# Altium footprint library ADAM_TECH_PH2-12-UA.PcbLib: 1 footprints
Each footprint in its own frame and in the unit in brackets; x right, y up, seen from the top. Pads: shape width x height; smd on the part's side, far side on the other; paste and mask are expansions set on the pad; w line width, h text height; cw(c..) or ccw(c..) is an arc to the next point about the centre after c.
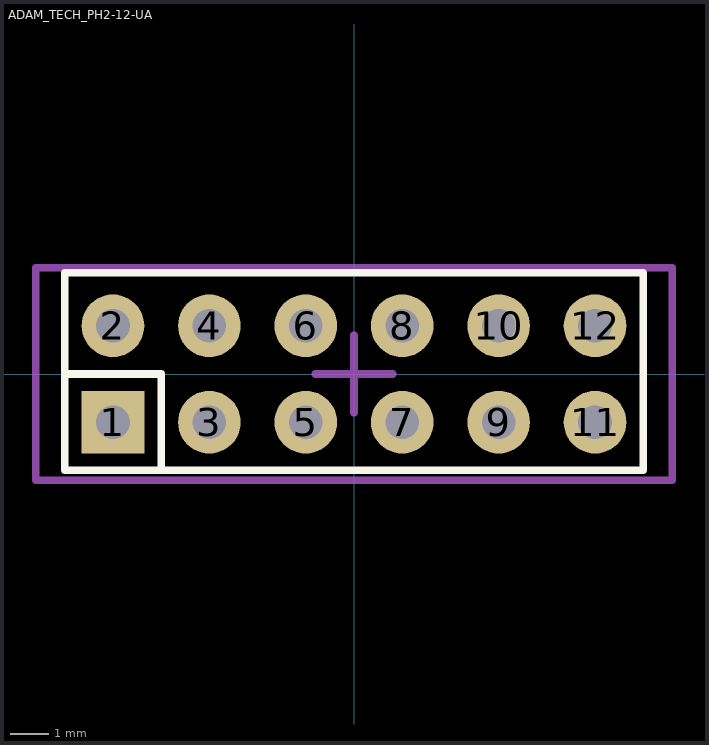
[diagram p0: the footprint, top view; thin cyan lines are the x and y axes]

## ADAM_TECH_PH2-12-UA [mil]
pads (12):
  rect 65x65 hole 35: 1(-250,-50)
  round 65 hole 35: 2(-250,50) 3(-150,-50) 4(-150,50) 5(-50,-50) 6(-50,50) 7(50,-50) 8(50,50) 9(150,-50) 10(150,50) 11(250,-50) 12(250,50)
Top Overlay:
  lines w7.87: -300,0 -200,0 -200,-100 ; -300,-100 300,-100 300,105 -300,105 -300,-100
Mechanical 15:
  lines w7.87: -40,0 40,0 ; 0,-40 0,40 ; -330,-110 330,-110 330,110 -330,110 -330,-110
3D body "PH2-12-UA.STEP": height 334.43, standoff -120.29, extent -300,-95 300,101.85